# Altium footprint library FU_PTC_MC33175.PcbLib: 1 footprints
Each footprint in its own frame and in the unit in brackets; x right, y up, seen from the top. Pads: shape width x height; smd on the part's side, far side on the other; paste and mask are expansions set on the pad; w line width, h text height; cw(c..) or ccw(c..) is an arc to the next point about the centre after c.
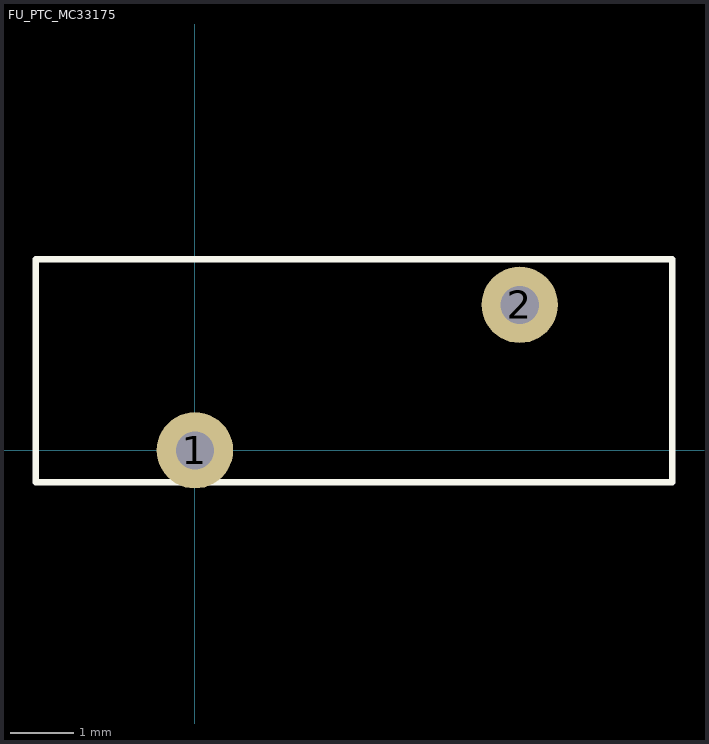
[diagram p0: the footprint, top view; thin cyan lines are the x and y axes]

## FU_PTC_MC33175 [mm] "Resettable fuse, Ih=0.5A, Itrip=1A"
pads (2):
  round 1.2 hole 0.6: 1(0,0) 2(5.105,2.286)
Top Overlay:
  lines w0.102: -2.5,-0.5 -2.5,3 7.5,3 7.5,-0.5 -2.5,-0.5
3D body: height 15.62, standoff -7.2, extent -2.3,-0.381 7.4,2.669